# Altium integrated library BB Sensor Peak Detector.IntLib: 3 symbols
Pins are listed as number, name and electrical type; pins without a type are passive.

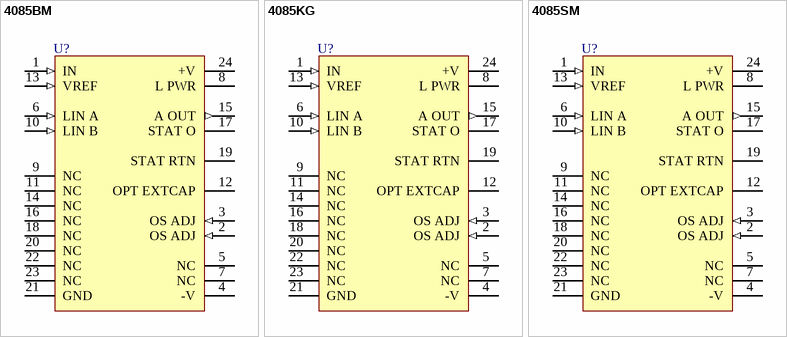
[diagram p0: symbols 4085BM to 4085SM]

## 4085BM
designator U?
Hybrid Microcircuit Peak Detector; Note: Pins 5, 7, 9, 11, 14, 16, 18, 20, 22 and 23 are No internal Connection (NC) pins.; Published: 8-Jun-2000; LatestRevisionDate: 17-Jul-2002; LatestRevisionNote: Re-released for DXP Platform.; DatasheetVersion: 1989; PackageVersion: 1994; PackageReference: ZZ113; Publisher: Altium Limited; PackageDescription: DIP; 24 Round Pins; Row Space 15.24 mm; Pitch 2.54 mm; ComponentLink1Description: Manufacturer Link; ComponentLink1URL: http://www.ti.com/
footprint ZZ113 (DIP; 24 Round Pins; Row Space 15.24 mm; Pitch 2.54 mm)
pins: 1 IN (in), 2 OS ADJ (in), 3 OS ADJ (in), 4 -V (power), 5 NC, 6 LIN A (in), 7 NC, 8 L PWR (power), 9 NC, 10 LIN B (in), 11 NC, 12 OPT EXTCAP, 13 VREF (in), 14 NC, 15 A OUT (out), 16 NC, 17 STAT O (oc), 18 NC, 19 STAT RTN (oe), 20 NC, 21 GND (power), 22 NC, 23 NC, 24 +V (power)

## 4085KG
designator U?
Hybrid Microcircuit Peak Detector; Note: Pins 5, 7, 9, 11, 14, 16, 18, 20, 22 and 23 are No internal Connection (NC) pins.; Published: 8-Jun-2000; LatestRevisionDate: 17-Jul-2002; LatestRevisionNote: Re-released for DXP Platform.; DatasheetVersion: 1989; PackageVersion: revA; PackageReference: ZZ075; Publisher: Altium Limited; PackageDescription: DIP; 24 Round Pins; Row Space 15.24 mm; Pitch 2.54 mm; ComponentLink1Description: Manufacturer Link; ComponentLink1URL: http://www.ti.com/
footprint ZZ075 (DIP; 24 Round Pins; Row Space 15.24 mm; Pitch 2.54 mm)
pins: 1 IN (in), 2 OS ADJ (in), 3 OS ADJ (in), 4 -V (power), 5 NC, 6 LIN A (in), 7 NC, 8 L PWR (power), 9 NC, 10 LIN B (in), 11 NC, 12 OPT EXTCAP, 13 VREF (in), 14 NC, 15 A OUT (out), 16 NC, 17 STAT O (oc), 18 NC, 19 STAT RTN (oe), 20 NC, 21 GND (power), 22 NC, 23 NC, 24 +V (power)

## 4085SM
designator U?
Hybrid Microcircuit Peak Detector; Note: Pins 5, 7, 9, 11, 14, 16, 18, 20, 22 and 23 are No internal Connection (NC) pins.; Published: 8-Jun-2000; LatestRevisionDate: 17-Jul-2002; LatestRevisionNote: Re-released for DXP Platform.; DatasheetVersion: 1989; PackageVersion: 1994; PackageReference: ZZ113; Publisher: Altium Limited; PackageDescription: DIP; 24 Round Pins; Row Space 15.24 mm; Pitch 2.54 mm; ComponentLink1Description: Manufacturer Link; ComponentLink1URL: http://www.ti.com/
footprint ZZ113 (DIP; 24 Round Pins; Row Space 15.24 mm; Pitch 2.54 mm)
pins: 1 IN (in), 2 OS ADJ (in), 3 OS ADJ (in), 4 -V (power), 5 NC, 6 LIN A (in), 7 NC, 8 L PWR (power), 9 NC, 10 LIN B (in), 11 NC, 12 OPT EXTCAP, 13 VREF (in), 14 NC, 15 A OUT (out), 16 NC, 17 STAT O (oc), 18 NC, 19 STAT RTN (oe), 20 NC, 21 GND (power), 22 NC, 23 NC, 24 +V (power)